# EAGLE library part XR-2902P (library exar)
MICROCONTROLLER
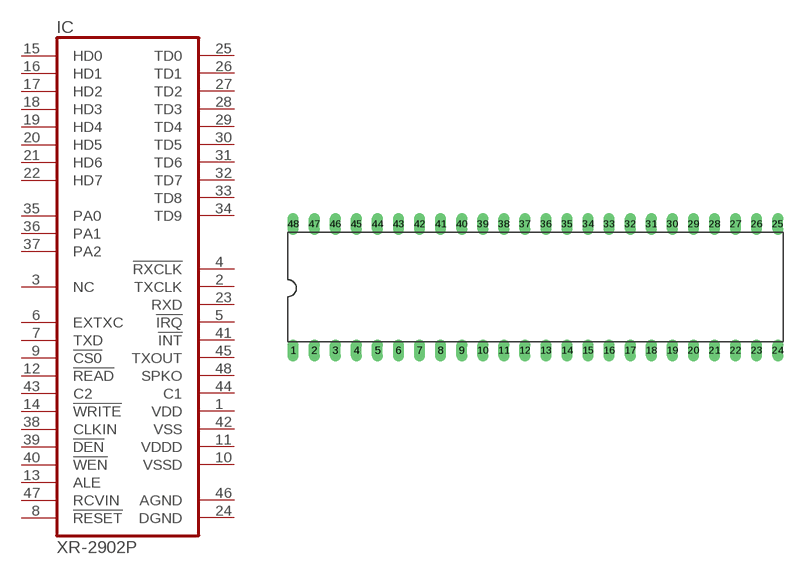
[diagram p85: symbol with the pads of DIL48; footprint DIL48]

Designator prefix IC

## XR-2902P (OC_FARNELL: unknown; OC_NEWARK: unknown)  [DIL48]
1  VDD  pwr
2  TXCLK  out
3  NC  nc
4  !RXCLK  out
5  !IRQ  out
6  EXTXC  in
7  TXD  in
8  !RESET  in
9  !CS0  in
10  VSSD  pwr
11  VDDD  pwr
12  !READ  in
13  ALE  in
14  !WRITE  in
15  HD0
16  HD1
17  HD2
18  HD3
19  HD4
20  HD5
21  HD6
22  HD7
23  RXD  out
24  DGND  pwr
25  TD0
26  TD1
27  TD2
28  TD3
29  TD4
30  TD5
31  TD6
32  TD7
33  TD8
34  TD9
35  PA0
36  PA1
37  PA2
38  CLKIN  in
39  !DEN  in
40  !WEN  in
41  !INT  out
42  VSS  pwr
43  C2  in
44  C1  out
45  TXOUT  out
46  AGND  pwr
47  RCVIN  in
48  SPKO  out

## Footprint DIL48 (pad centres in mm)
Dual In Line Package
drill 0.813 long: 1 -29.21,-7.62; 2 -26.67,-7.62; 3 -24.13,-7.62; 4 -21.59,-7.62; 5 -19.05,-7.62; 6 -16.51,-7.62; 7 -13.97,-7.62; 8 -11.43,-7.62; 9 -8.89,-7.62; 10 -6.35,-7.62; 11 -3.81,-7.62; 12 -1.27,-7.62; 13 1.27,-7.62; 14 3.81,-7.62; 15 6.35,-7.62; 16 8.89,-7.62; 17 11.43,-7.62; 18 13.97,-7.62; 19 16.51,-7.62; 20 19.05,-7.62; 21 21.59,-7.62; 22 24.13,-7.62; 23 26.67,-7.62; 24 29.21,-7.62; 25 29.21,7.62; 26 26.67,7.62; 27 24.13,7.62; 28 21.59,7.62; 29 19.05,7.62; 30 16.51,7.62; 31 13.97,7.62; 32 11.43,7.62; 33 8.89,7.62; 34 6.35,7.62; 35 3.81,7.62; 36 1.27,7.62; 37 -1.27,7.62; 38 -3.81,7.62; 39 -6.35,7.62; 40 -8.89,7.62; 41 -11.43,7.62; 42 -13.97,7.62; 43 -16.51,7.62; 44 -19.05,7.62; 45 -21.59,7.62; 46 -24.13,7.62; 47 -26.67,7.62; 48 -29.21,7.62